# EAGLE library part F3022 (library switch-finder)
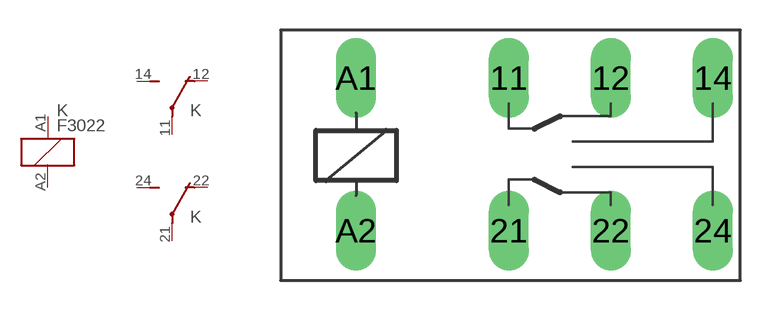
[diagram p0: symbol with the pads of F3022; footprint F3022]

Designator prefix K; gates G$1=K G$2=U G$3=U

## F3022  [F3022]
11  G$2:P  pas
12  G$2:O  pas
14  G$2:S  pas
21  G$3:P  pas
22  G$3:O  pas
24  G$3:S  pas
A1  G$1:1  pas
A2  G$1:2  pas

## Footprint F3022 (pad centres in mm)
drill 1.321 long: 11 5.08,3.81; 12 10.16,3.81; 14 15.24,3.81; 21 5.08,-3.81; 22 10.16,-3.81; 24 15.24,-3.81; A1 -2.54,3.81; A2 -2.54,-3.81